# Altium schematic symbol library Connectors.SchLib: 63 symbols
Pins are listed as number, name and electrical type; pins without a type are passive.

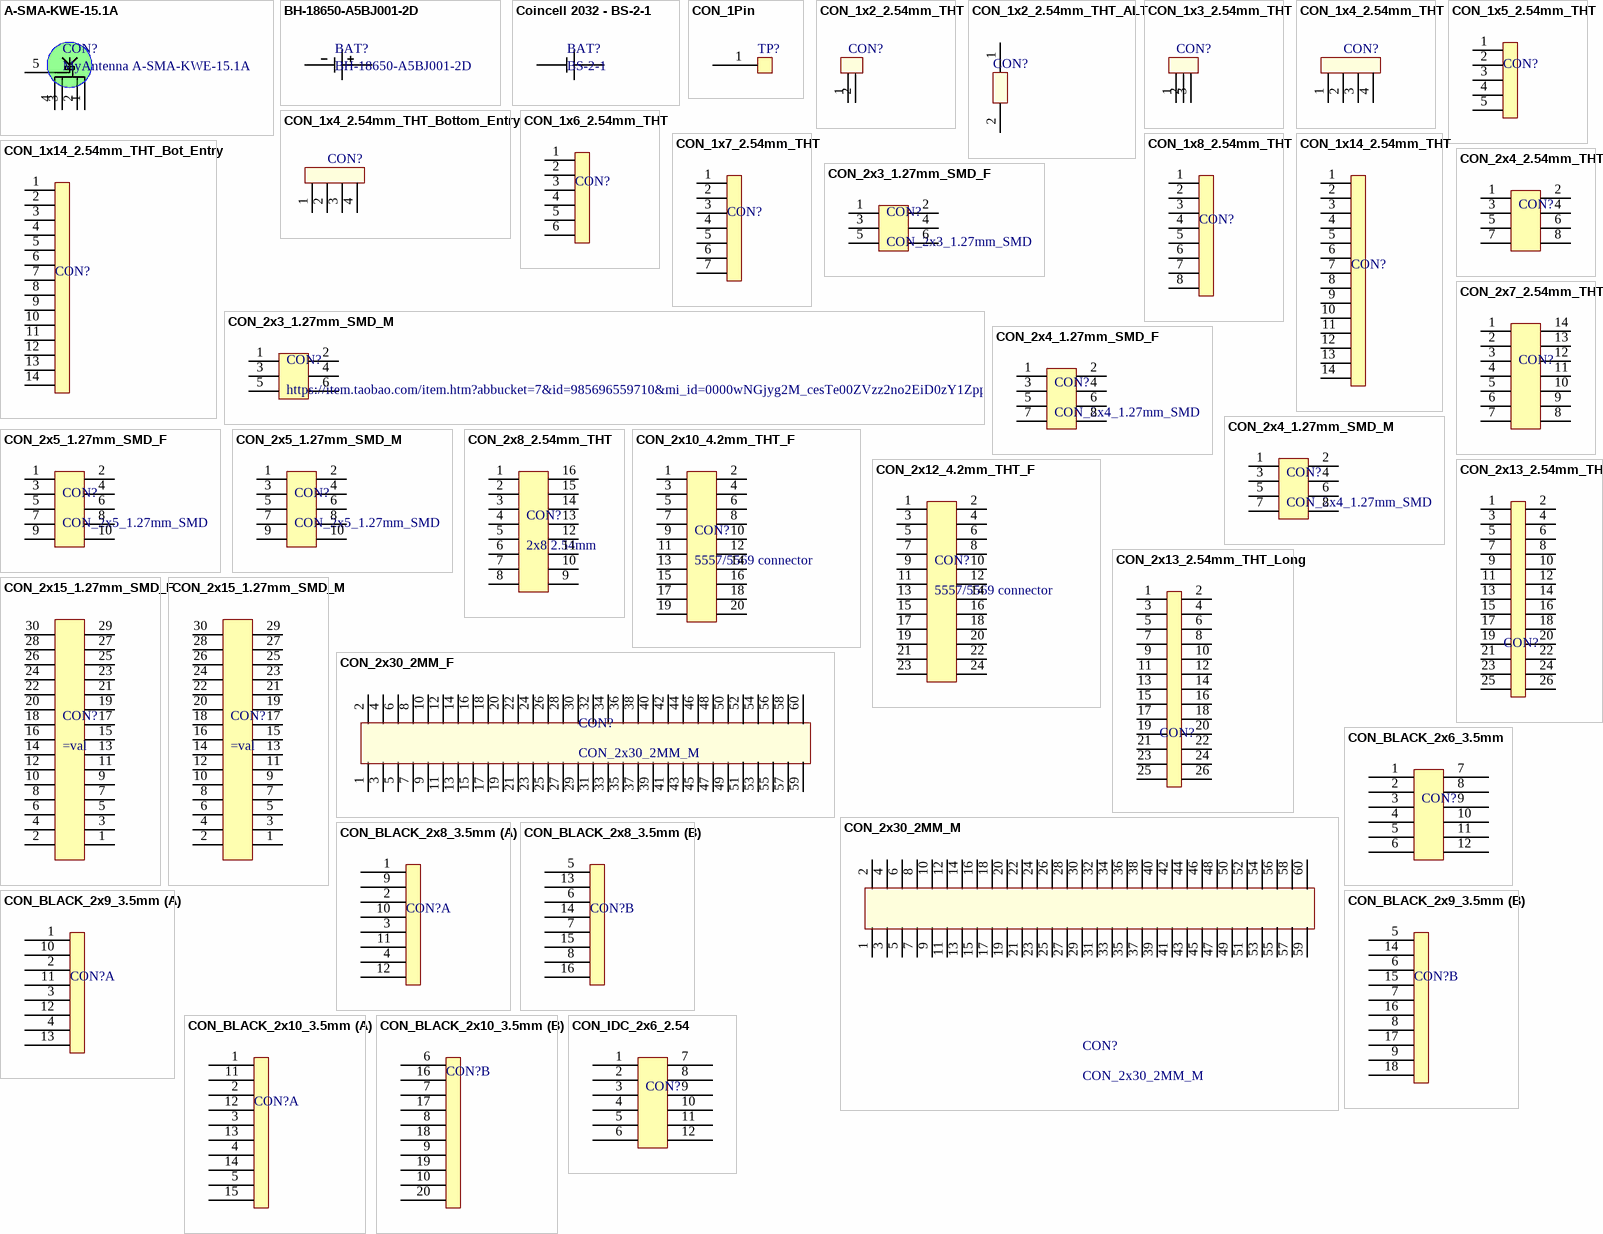
[diagram p0: symbols A-SMA-KWE-15.1A to CON_IDC_2x6_2.54]

## A-SMA-KWE-15.1A
designator CON?, comment MyAntenna A-SMA-KWE-15.1A
SMA Connector - 1 Inner Bore SMA Board Side Elbow 6GHz 50Ω 5.35mm Through Hole Coaxial Connector (RF) Adapters RoHS; val: MyAntenna A-SMA-KWE-15.1A; sample link: https://www.lcsc.com/product-detail/C49253491.html?s_z=n_SMA; unit price: $ 0.9375
footprint A-SMA-KWE-15.1A (1 Inner Bore SMA Board Side Elbow 6GHz 50Ω 5.35mm Through Hole Coaxial Connector (RF) Adapters RoHS)
pins: 1, 2, 3, 4, 5

## BH-18650-A5BJ001-2D
designator BAT?
BATTERY HOLDER CYLINDRICAL TH; val: BH-18650-A5BJ001-2D; sample link: https://www.lcsc.com/product-detail/C19184083.html?s_z=n_q_t_18650&spm=wm.fly.bg.2.xh___wm.ssy.tc.0.tz&lcsc_vid=RVhdAVNUQwAIV1dSEwBWUF1URFhWXgYERVENVQEAQVExVlNRT1dZXlNeRFZcVzsOAxUeFF5JWBYZEEoKFBINSQcJGk4NBhADEA4cHktXQ1FaSQwSGg0%3D; price: $ 0.7; note: *
footprint BH-18650-THR
pins: 1, 2

## Coincell 2032 - BS-2-1
designator BAT?, comment BS-2-1
Coincell 2032 - BS-2-1; note: any manufacturer; val: BS-2-1; sample link: https://item.taobao.com/item.htm?abbucket=2&id=38536074730&ns=1&spm=a230r.1.14.36.6b9547cfXdt8x6; unit price: $ 0.013
footprint Coincell_2032
pins: 1, 2

## CON_1Pin
designator TP?  (value not drawn)
Single THT Pad; note: NC; val: *
footprint CON_1Pin
pins: 1

## CON_1x2_2.54mm_THT
designator CON?, comment 1x2 2.54mm THT  (value not drawn)
CON_1x2_2.54mm_THT; note: any manufacturer; val: 1x2 2.54mm THT
footprint CON_1x2_2.54MM_THT_M (Chip Resistor, 2-Leads, Body 5,20x3,30mm, IPC Medium Density)
footprint CON_1x2_2.54MM_THT_F
pins: 1 "PWR", 2 "I"

## CON_1x2_2.54mm_THT_ALT
designator CON?, comment 1x2 2.54mm THT  (value not drawn)
CON_1x2_2.54mm_THT; note: any manufacturer; val: 1x2 2.54mm THT
footprint CON_1x2_2.54MM_THT_M (Chip Resistor, 2-Leads, Body 5,20x3,30mm, IPC Medium Density)
footprint CON_1x2_2.54MM_THT_F
pins: 1 "PWR", 2 "I"

## CON_1x3_2.54mm_THT
designator CON?, comment 1x3 2.54mm THT  (value not drawn)
CON_1x3_2.54mm_THT; note: any manufacturer; val: 1x3 2.54mm THT
footprint CON_1x3_2.54MM_THT_M (Chip Resistor, 2-Leads, Body 5,20x3,30mm, IPC Medium Density)
footprint CON_1x3_2.54MM_THT_F
pins: 1 "PWR", 2 "I", 3 "I"

## CON_1x4_2.54mm_THT
designator CON?, comment 1x4 2.54mm THT  (value not drawn)
CON_1x4_2.54mm_THT; note: any manufacturer; val: 1x4 2.54mm THT
footprint CON_1x4_2.54MM_THT_M (Chip Resistor, 2-Leads, Body 5,20x3,30mm, IPC Medium Density)
footprint CON_1x4_2.54MM_THT_F
pins: 1 "PWR", 2 "I", 3 "I", 4 "I"

## CON_1x4_2.54mm_THT_Bottom_Entry
designator CON?, comment 1x4 2.54mm THT  (value not drawn)
CON_1x4_2.54mm_THT; note: any manufacturer; val: 1x4 2.54mm THT; sample link: https://detail.tmall.com/item.htm?abbucket=19&id=797183413434&mi_id=0000LhedSY5ZP2KRv-54Ayo_jJ_iVmhxSMyUdi7-I17H6rU&ns=1&priceTId=2100c91517739147599908679e0d32&skuId=5954899691431&spm=a21n57.imgsearch.item.3&utparam=%7B%22aplus_abtest%22%3A%22941633843d8de7444afe6b23dca378c5%22%7D&xxc=taobaoSearch
footprint CON_1x4_2.54MM_THT_F_Bot_Entry
pins: 1 "PWR", 2 "I", 3 "I", 4 "I"

## CON_1x5_2.54mm_THT
designator CON?, comment 1x5 2.54mm  (value not drawn)
CON_1x5_2.54mm_THT; note: any manufacturer; val: 1x5 2.54mm
footprint CON_1x5_2.54MM_THT_M
footprint CON_1x5_2.54MM_THT_F
pins: 1, 2, 3, 4, 5

## CON_1x6_2.54mm_THT
designator CON?, comment 1x6 2.54mm  (value not drawn)
CON_1x6_2.54mm_THT; note: any manufacturer; val: 1x6 2.54mm
footprint CON_1x6_2.54MM_THT_M
footprint CON_1x6_2.54MM_THT_F
pins: 1, 2, 3, 4, 5, 6

## CON_1x7_2.54mm_THT
designator CON?, comment 1x7 2.54mm  (value not drawn)
CON_1x7_2.54mm_THT; note: any manufacturer; val: 1x7 2.54mm
footprint CON_1x7_2.54MM_THT_M
footprint CON_1x7_2.54MM_THT_F
pins: 1, 2, 3, 4, 5, 6, 7

## CON_1x8_2.54mm_THT
designator CON?, comment 1x8 2.54mm  (value not drawn)
CON_1x8_2.54mm_THT; note: any manufacturer; val: 1x8 2.54mm
footprint CON_1x8_2.54MM_THT_M (Chip Resistor, 2-Leads, Body 5,20x3,30mm, IPC Medium Density)
footprint CON_1x8_2.54MM_THT_F
pins: 1, 2, 3, 4, 5, 6, 7, 8

## CON_1x14_2.54mm_THT
designator CON?, comment 1x14 2.54mm  (value not drawn)
CON_1x14_2.54mm_THT; note: any manufacturer; val: 1x14 2.54mm
footprint CON_1X14_2.54MM_THT_M
footprint CON_1X14_2.54MM_THT_F
pins: 1, 2, 3, 4, 5, 6, 7, 8, 9, 10, 11, 12, 13, 14

## CON_1x14_2.54mm_THT_Bot_Entry
designator CON?, comment 1x14 2.54mm  (value not drawn)
CON_1x14_2.54mm_THT Bottom Entry F; note: 14 პინიანი არ იყიდება და 20იანის ყიდვა და გადაჭრა მოგვიწევს; val: 1x14 2.54mm; sample link: https://detail.tmall.com/item.htm?abbucket=19&id=797183413434&mi_id=0000LhedSY5ZP2KRv-54Ayo_jJ_iVmhxSMyUdi7-I17H6rU&ns=1&priceTId=2100c91517739147599908679e0d32&skuId=5604626247720&spm=a21n57.imgsearch.item.3&utparam=%7B%22aplus_abtest%22%3A%22941633843d8de7444afe6b23dca378c5%22%7D&xxc=taobaoSearch; unit price: $ 1.48
footprint CON_1X14_2.54MM_THT_F_Bot_Entry
pins: 1, 2, 3, 4, 5, 6, 7, 8, 9, 10, 11, 12, 13, 14

## CON_2x3_1.27mm_SMD_F
designator CON?, comment CON_2x3_1.27mm_SMD
CON_2x4_1.27mm SMD; sample link: https://detail.tmall.com/item.htm?abbucket=7&id=542887739976&mi_id=00001byeTU42Nw8JpqvEEJw3_ofET_pYYvzusNPfAkYixoU&ns=1&skuId=3428605315590&spm=a21n57.1.hoverItem.7&utparam=%7B%22aplus_abtest%22%3A%22c8a12318f0deb53d81deeb3f6362248f%22%7D&xxc=taobaoSearch; val: CON_2x3_1.27mm_SMD
footprint CON_2x3_1.27mm_SMD_F
pins: 1, 2, 3, 4, 5, 6

## CON_2x3_1.27mm_SMD_M
designator CON?, comment https://item.taobao.com/item.htm?abbucket=7&id=985696559710&mi_id=0000wNGjyg2M_cesTe00ZVzz2no2EiD0zY1ZppcTPX7ewdU&ns=1&priceTId=2100c89217750301413374165e0cd5&spm=a21n57.imgsearch.item.2&utparam=%7B%22aplus_abtest%22%3A%221ace5186278ba47c5557f27108cb537b%22%7D&xxc=taobaoSearch&skuId=5949382556207
CON_2x4_1.27mm SMD; sample link: https://item.taobao.com/item.htm?abbucket=7&id=719795507717&mi_id=0000oywhHygkll7DPobYTEFSxA6Vl07qoXtlYOB_DLtdd5s&ns=1&priceTId=2100c89217750301413374165e0cd5&skuId=5189291839743&spm=a21n57.imgsearch.item.6&utparam=%7B%22aplus_abtest%22%3A%22805ff6bc82cdd4cb5da3d39334db42e2%22%7D&xxc=taobaoSearch; val: https://item.taobao.com/item.htm?abbucket=7&id=985696559710&mi_id=0000wNGjyg2M_cesTe00ZVzz2no2EiD0zY1ZppcTPX7ewdU&ns=1&priceTId=2100c89217750301413374165e0cd5&spm=a21n57.imgsearch.item.2&utparam=%7B%22aplus_abtest%22%3A%221ace5186278ba47c5557f27108cb537b%22%7D&xxc=taobaoSearch&skuId=5949382556207
footprint CON_2x3_1.27mm_SMD_M
pins: 1, 2, 3, 4, 5, 6

## CON_2x4_1.27mm_SMD_F
designator CON?, comment CON_2x4_1.27mm_SMD
CON_2x4_1.27mm SMD with positioning pegs; val: CON_2x4_1.27mm_SMD; sample link: https://item.taobao.com/item.htm?abbucket=7&id=990364773282&mi_id=0000PUgFQrwyk5zXe0LhPjupg4-RZI5iYj2pUu42m8jPTP4&ns=1&priceTId=2100c91e17720165420351112e0d0f&skuId=6122925414288&spm=a21n57.1.hoverItem.9&utparam=%7B%22aplus_abtest%22%3A%22e514192708b4c6914c5abc03ef6ba092%22%7D&xxc=taobaoSearch
footprint CON_2x4_1.27mm_SMD_F
pins: 1, 2, 3, 4, 5, 6, 7, 8

## CON_2x4_1.27mm_SMD_M
designator CON?, comment CON_2x4_1.27mm_SMD
CON_2x4_1.27mm SMD with positioning pegs; val: CON_2x4_1.27mm_SMD; sample link: https://item.taobao.com/item.htm?abbucket=7&id=985696559710&mi_id=0000wNGjyg2M_cesTe00ZVzz2no2EiD0zY1ZppcTPX7ewdU&ns=1&priceTId=2100c89217750301413374165e0cd5&spm=a21n57.imgsearch.item.2&utparam=%7B%22aplus_abtest%22%3A%221ace5186278ba47c5557f27108cb537b%22%7D&xxc=taobaoSearch&skuId=5949382556207
footprint CON_2x4_1.27mm_SMD_M
pins: 1, 2, 3, 4, 5, 6, 7, 8

## CON_2x4_2.54mm_THT
designator CON?, comment 2x4 2.54mm THT  (value not drawn)
CON_2x4_2.54mm_THT; note: any manufacturer; val: 2x4 2.54mm THT
footprint CON_2x4_2.54MM_THT_M
footprint CON_2x4_2.54MM_THT_F
pins: 1, 2, 3, 4, 5, 6, 7, 8

## CON_2x5_1.27mm_SMD_F
designator CON?, comment CON_2x5_1.27mm_SMD
CON_2x5_1.27mm SMD with positioning pegs; sample link: https://item.taobao.com/item.htm?abbucket=7&id=990364773282&mi_id=0000PUgFQrwyk5zXe0LhPjupg4-RZI5iYj2pUu42m8jPTP4&ns=1&priceTId=2100c91e17720165420351112e0d0f&skuId=6122925414289&spm=a21n57.1.hoverItem.9&utparam=%7B%22aplus_abtest%22%3A%22e514192708b4c6914c5abc03ef6ba092%22%7D&xxc=taobaoSearch; val: CON_2x5_1.27mm_SMD
footprint CON_2x5_1.27mm_SMD_F
pins: 1, 2, 3, 4, 5, 6, 7, 8, 9, 10

## CON_2x5_1.27mm_SMD_M
designator CON?, comment CON_2x5_1.27mm_SMD
CON_2x5_1.27mm SMD with positioning pegs; sample link: https://item.taobao.com/item.htm?abbucket=7&id=985696559710&mi_id=0000wNGjyg2M_cesTe00ZVzz2no2EiD0zY1ZppcTPX7ewdU&ns=1&priceTId=2100c89217750301413374165e0cd5&skuId=5949382556198&spm=a21n57.imgsearch.item.2&utparam=%7B%22aplus_abtest%22%3A%221ace5186278ba47c5557f27108cb537b%22%7D&xxc=taobaoSearch; val: CON_2x5_1.27mm_SMD
footprint CON_2x5_1.27mm_SMD_M
pins: 1, 2, 3, 4, 5, 6, 7, 8, 9, 10

## CON_2x7_2.54mm_THT
designator CON?, comment 2x7 2.54mm  (value not drawn)
CON_2x7_2.54mm_THT; note: any manufacturer; val: 2x7 2.54mm
footprint CON_2x7_2.54MM_THT_M
footprint CON_2x7_2.54MM_THT_F
pins: 1, 2, 3, 4, 5, 6, 7, 8, 9, 10, 11, 12, 13 "PWR", 14 "PWR"

## CON_2x8_2.54mm_THT
designator CON?, comment 2x8 2.54mm
CON_2x8_2.54mm_THT; note: any manufacturer; val: 2x8 2.54mm
footprint CON_2x8_2.54MM_THT_M
pins: 1, 2, 3, 4, 5, 6, 7, 8, 9, 10, 11, 12, 13 "PWR", 14 "PWR", 15 "PWR", 16 "PWR"

## CON_2x10_4.2mm_THT_F
designator CON?, comment 5557/5569 connector
CON_2x10_4.2mm_THT Straight Pin; sample link: https://item.taobao.com/item.htm?abbucket=17&id=557446625982&ns=1&spm=a230r.1.14.26.4ae16218Zr5FXY&skuId=3456302328403; val: 5557/5569 connector
footprint CON_2x10_4.2mm_THT_F
pins: 1, 2, 3, 4, 5, 6, 7, 8, 9, 10, 11, 12, 13, 14, 15, 16, 17, 18, 19, 20

## CON_2x12_4.2mm_THT_F
designator CON?, comment 5557/5569 connector
CON_2x12_4.2mm_THT Straight Pin; sample link: https://item.taobao.com/item.htm?abbucket=17&id=557446625982&ns=1&skuId=3642191258094&spm=a230r.1.14.26.4ae16218Zr5FXY; val: 5557/5569 connector
footprint CON_2x12_4.2mm_THT_F
pins: 1, 2, 3, 4, 5, 6, 7, 8, 9, 10, 11, 12, 13, 14, 15, 16, 17, 18, 19, 20, 21, 22, 23, 24

## CON_2x13_2.54mm_THT
designator CON?, comment CON_2x13_2mm_THT  (value not drawn)
CON_2x13_2.54mm_THT; val: CON_2x13_2mm_THT; sample link: https://item.taobao.com/item.htm?id=534188799238&spm=a1z10.5-c.w4002-17382155375.12.655756c29WaZFO&sku_properties=1627207%3A2525007167
footprint CON_2x13_2.54MM_THT_M
footprint CON_2x13_2.54MM_THT_F
pins: 1, 2, 3, 4, 5, 6, 7, 8, 9, 10, 11, 12, 13, 14, 15, 16, 17, 18, 19, 20, 21 "I", 22 "I", 23 "I", 24 "I", 25 "I", 26 "I"

## CON_2x13_2.54mm_THT_Long
designator CON?, comment CON_2x13_2mm_THT  (value not drawn)
CON_2x13_2.54mm_THT / 2cm Pins; val: CON_2x13_2mm_THT; sample link: https://item.taobao.com/item.htm?abbucket=7&id=733740487589&mi_id=0000Hg0Q1O6FFgDh7fKpRoC1w_PtEjmXGdB206RTIYGQlIM&ns=1&priceTId=2100c80517750255167513790e0cce&skuId=5077206449686&spm=a21n57.1.hoverItem.8&utparam=%7B%22aplus_abtest%22%3A%22201c268619616e18fb90ef143cfc7206%22%7D&xxc=taobaoSearch
footprint CON_2x13_2.54MM_THT_M_LONG
pins: 1, 2, 3, 4, 5, 6, 7, 8, 9, 10, 11, 12, 13, 14, 15, 16, 17, 18, 19, 20, 21 "I", 22 "I", 23 "I", 24 "I", 25 "I", 26 "I"

## CON_2x15_1.27mm_SMD_F
designator CON?
CON_2x15_1.27mm SMD with positioning pegs; sample link: https://item.taobao.com/item.htm?abbucket=7&id=990364773282&mi_id=0000PUgFQrwyk5zXe0LhPjupg4-RZI5iYj2pUu42m8jPTP4&ns=1&priceTId=2100c91e17720165420351112e0d0f&skuId=6122925414294&spm=a21n57.1.hoverItem.9&utparam=%7B%22aplus_abtest%22%3A%22e514192708b4c6914c5abc03ef6ba092%22%7D&xxc=taobaoSearch
footprint CON_2x15_1.27mm_SMD_F
pins: 1, 2, 3, 4, 5, 6, 7, 8, 9, 10, 11, 12, 13, 14, 15, 16, 17, 18, 19, 20, 21, 22, 23, 24, 25, 26, 27, 28, 29, 30

## CON_2x15_1.27mm_SMD_M
designator CON?
CON_2x15_1.27mm SMD with positioning pegs; sample link: https://item.taobao.com/item.htm?abbucket=7&id=985696559710&mi_id=0000wNGjyg2M_cesTe00ZVzz2no2EiD0zY1ZppcTPX7ewdU&ns=1&priceTId=2100c89217750301413374165e0cd5&spm=a21n57.imgsearch.item.2&utparam=%7B%22aplus_abtest%22%3A%221ace5186278ba47c5557f27108cb537b%22%7D&xxc=taobaoSearch&skuId=5949382556207
footprint CON_2x15_1.27mm_SMD_M
pins: 1, 2, 3, 4, 5, 6, 7, 8, 9, 10, 11, 12, 13, 14, 15, 16, 17, 18, 19, 20, 21, 22, 23, 24, 25, 26, 27, 28, 29, 30

## CON_2x30_2MM_F
designator CON?, comment CON_2x30_2MM_M
CON_2x30_2MM_F; val: CON_2x30_2MM_M; note: *; sample link: https://www.lcsc.com/product-detail/C65178.html?s_z=n_2.0-2%2a30P
footprint CON_2x30_2MM_F
pins: 1, 2, 3, 4, 5, 6, 7, 8, 9, 10, 11, 12, 13, 14, 15, 16, 17, 18, 19, 20, 21, 22, 23, 24, 25, 26, 27, 28, 29, 30, 31, 32, 33, 34, 35, 36, 37, 38, 39, 40, 41, 42, 43, 44, 45, 46, 47, 48, 49, 50, 51, 52, 53, 54, 55, 56, 57, 58, 59, 60

## CON_2x30_2MM_M
designator CON?
val: CON_2x30_2MM_M; note: *; sample link: https://www.lcsc.com/product-detail/C42717.html?spm=wm.fly.bg.0.xh___wm.fly.tp.4.ml&lcsc_vid=FVFdBVUFR1ULBQFWR1cKXlxXQwQPVFVUQFJaUFIARFkxVlNRQVhaUVNWQFdaUTsOAxUeFF5JWBYZEEoKFBINSQcJGk4NBhADEA4cHktRTlJADxALGw%3D%3D
footprint CON_2x30_2MM_M
pins: 1, 2, 3, 4, 5, 6, 7, 8, 9, 10, 11, 12, 13, 14, 15, 16, 17, 18, 19, 20, 21, 22, 23, 24, 25, 26, 27, 28, 29, 30, 31, 32, 33, 34, 35, 36, 37, 38, 39, 40, 41, 42, 43, 44, 45, 46, 47, 48, 49, 50, 51, 52, 53, 54, 55, 56, 57, 58, 59, 60

## CON_BLACK_2x6_3.5mm
designator CON?, comment KF2EDGSV-3.5-2*8P  (value not drawn)
300V -40℃~+105℃ 8 10A Black 3.5mm Board Side/Socket - Closed 2 2x8P Straight Pin Through Hole,P=3.5mm Headers, Plugs and Sockets RoHS; note: any manufacturer; val: KF2EDGSV-3.5-2*8P; sample link: https://item.taobao.com/item.htm?id=654108697549&last_time=1765862189&mi_id=00003wfGBEcvtUKEhEmhOd_nwq-6bMiOgI4-hHG0audKinI&scm=1007.13982.82927.0&skuId=4896664375707&spm=tbpc.mytb_footmark.item.goods&upStreamPrice=80; unit price: $ 1.42
footprint CON_BLACK_2X6_3.5MM
pins: 1, 2, 3, 4, 5, 6, 7, 8, 9, 10, 11, 12

## CON_BLACK_2x8_3.5mm
designator CON?, comment KF2EDGSV-3.5-2*8P  (value not drawn)
300V -40℃~+105℃ 8 10A Black 3.5mm Board Side/Socket - Closed 2 2x8P Straight Pin Through Hole,P=3.5mm Headers, Plugs and Sockets RoHS; note: any manufacturer; val: KF2EDGSV-3.5-2*8P; sample link: https://item.taobao.com/item.htm?id=654108697549&last_time=1765862189&mi_id=00003wfGBEcvtUKEhEmhOd_nwq-6bMiOgI4-hHG0audKinI&scm=1007.13982.82927.0&spm=tbpc.mytb_footmark.item.goods&upStreamPrice=80&skuId=4896664375717; unit price: $ 1.42
footprint CON_BLACK_2x8_3.5mm (15EDGKNH KF2EDGKS 3.5 Double-layer spring-loaded PCB terminal block 2EDGSR black terminal)
part A pins: 1, 2, 3, 4, 9, 10, 11, 12
part B pins: 5 15, 6, 7, 8, 13, 14, 15, 16

## CON_BLACK_2x9_3.5mm
designator CON?, comment KF2EDGSV-3.5-2*8P  (value not drawn)
300V -40℃~+105℃ 8 10A Black 3.5mm Board Side/Socket - Closed 2 2x8P Straight Pin Through Hole,P=3.5mm Headers, Plugs and Sockets RoHS; note: any manufacturer; val: KF2EDGSV-3.5-2*8P; sample link: https://item.taobao.com/item.htm?id=654108697549&last_time=1765862189&mi_id=00003wfGBEcvtUKEhEmhOd_nwq-6bMiOgI4-hHG0audKinI&scm=1007.13982.82927.0&sku_properties=1627207%3A387614636&spm=tbpc.mytb_footmark.item.goods&upStreamPrice=80; unit price: $ 1.5
footprint CON_BLACK_2x9_3.5mm (15EDGKNH KF2EDGKS 3.5 Double-layer spring-loaded PCB terminal block 2EDGSR black terminal)
part A pins: 1, 2, 3, 4, 10, 11, 12, 13
part B pins: 5 15, 6, 7, 8, 9, 14, 15, 16, 17, 18

## CON_BLACK_2x10_3.5mm
designator CON?, comment KF2EDGSV-3.5-2*8P  (value not drawn)
300V -40℃~+105℃ 8 10A Black 3.5mm Board Side/Socket - Closed 2 2x8P Straight Pin Through Hole,P=3.5mm Headers, Plugs and Sockets RoHS; note: any manufacturer; val: KF2EDGSV-3.5-2*8P; sample link: https://item.taobao.com/item.htm?id=654108697549&last_time=1765862189&mi_id=00003wfGBEcvtUKEhEmhOd_nwq-6bMiOgI4-hHG0audKinI&scm=1007.13982.82927.0&sku_properties=1627207%3A402630518&spm=tbpc.mytb_footmark.item.goods&upStreamPrice=80; unit price: $ 1.5
footprint CON_BLACK_2x10_3.5mm (15EDGKNH KF2EDGKS 3.5 Double-layer spring-loaded PCB terminal block 2EDGSR black terminal)
part A pins: 1, 2, 3, 4, 5, 11, 12, 13, 14, 15
part B pins: 6, 7, 8, 9, 10, 16, 17, 18, 19, 20

## CON_IDC_2x6_2.54
designator CON?, comment BOOMELE(Boom Precision Elec) 2.54-2*6P  (value not drawn)
IDC Connector 2x6 2.54mm pitch; note: any manufacturer; sample link: https://www.lcsc.com/product-detail/C9136.html; val: BOOMELE(Boom Precision Elec) 2.54-2*6P; unit price: $ 0.1136
footprint CON_IDC_2x6_2.54
pins: 1, 2, 3, 4, 5, 6, 7, 8, 9, 10, 11, 12

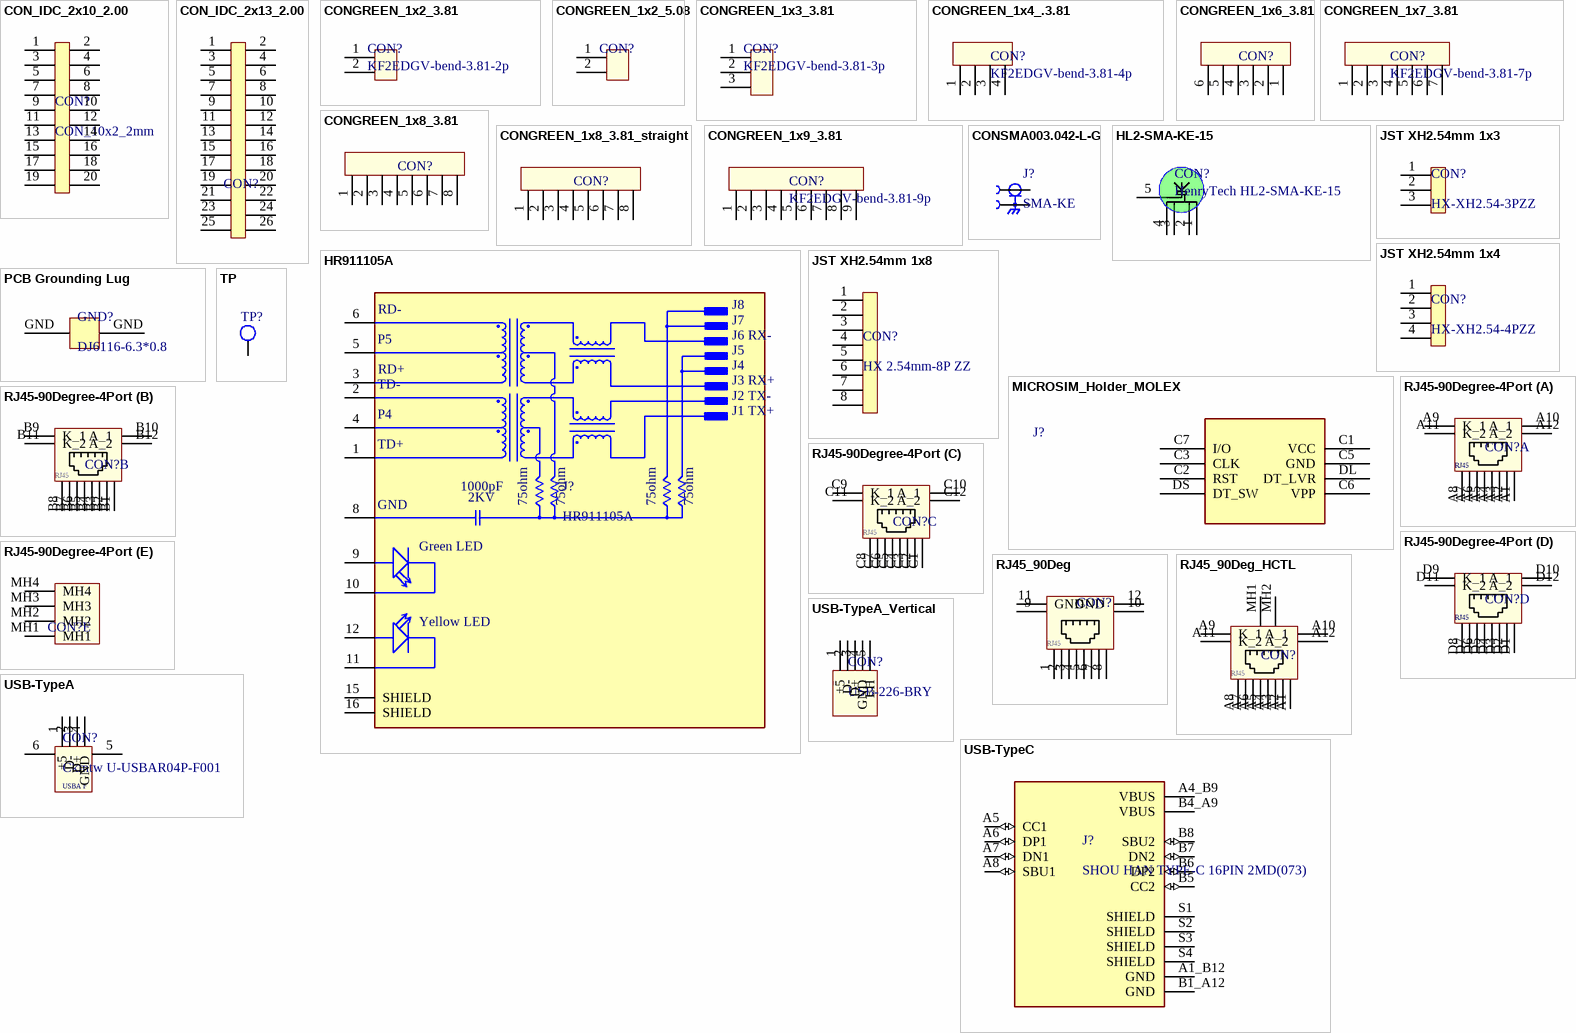
[diagram p1: symbols CON_IDC_2x10_2.00 to USB-TypeC]

## CON_IDC_2x10_2.00
designator CON?, comment CON_10x2_2mm
IDC Connector 2x10 2.00mm; sample link: https://item.taobao.com/item.htm?id=534188799238&spm=a1z10.5-c.w4002-17382155375.12.655756c29WaZFO&sku_properties=1627207%3A2525007165; val: CON_10x2_2mm; unit price: $ 0.03
footprint CON_IDC_2x10_2.00
pins: 1, 2, 3, 4, 5, 6, 7, 8, 9, 10, 11, 12, 13, 14, 15, 16, 17, 18, 19, 20

## CON_IDC_2x13_2.00
designator CON?, comment CON_2x13_2mm_THT  (value not drawn)
IDC Connector 2x13 2.00mm; val: CON_2x13_2mm_THT; sample link: https://item.taobao.com/item.htm?id=534188799238&spm=a1z10.5-c.w4002-17382155375.12.655756c29WaZFO&sku_properties=1627207%3A2525007167; unit price: $ 0.03
footprint CON_IDC_2x13_2.00
pins: 1, 2, 3, 4, 5, 6, 7, 8, 9, 10, 11, 12, 13, 14, 15, 16, 17, 18, 19, 20, 21 "I", 22 "I", 23 "I", 24 "I", 25 "I", 26 "I"

## CONGREEN_1x2_3.81
designator CON?, comment KF2EDGV-bend-3.81-2p
Green Connector; / KF2EDGV-bend-3.81-2p; val: KF2EDGV-bend-3.81-2p; sample link: https://item.taobao.com/item.htm?abbucket=9&id=576170361051&ns=1&skuId=3789887120326&spm=a230r.1.14.16.7b7d1f20ZfqEbK
footprint CONGREEN_1x2_3.81
pins: 1, 2

## CONGREEN_1x2_5.08
designator CON?, comment KF2EDGV-bend-5.08-2p  (value not drawn)
Green Connector; / 90 Deg; / Standard Power CON;; note: any manufacturer; val: KF2EDGV-bend-5.08-2p; sample link: https://item.taobao.com/item.htm?id=627937673630&ali_refid=a3_430620_1006:1357150152:N:qcFFAXKWVXPiAomGkMlNEA%3D%3D:4aff8ccc3e7e8f00aa33368873902164&ali_trackid=230_4aff8ccc3e7e8f00aa33368873902164&spm=a230r.1.14.8#detail
footprint CONGREEN_1x2_5.08
pins: 1, 2

## CONGREEN_1x3_3.81
designator CON?, comment KF2EDGV-bend-3.81-3p
Green Connector; / KF2EDGV-bend-3.81-3p; val: KF2EDGV-bend-3.81-3p; sample link: https://item.taobao.com/item.htm?abbucket=9&id=576170361051&ns=1&spm=a230r.1.14.16.7b7d1f20ZfqEbK&skuId=3789887120336
footprint CONGREEN_1x3_3.81 (SOIC, 100-Leads, Body 64,17x3,05mm, Pitch 1,27mm, IPC Medium Density)
pins: 1, 2, 3

## CONGREEN_1x4_.3.81
designator CON?, comment KF2EDGV-bend-3.81-4p
Green Connector; / KF2EDGV-bend-3.81-4p; val: KF2EDGV-bend-3.81-4p; sample link: https://item.taobao.com/item.htm?abbucket=9&id=576170361051&ns=1&spm=a230r.1.14.16.7b7d1f20ZfqEbK&skuId=3789887120346
footprint CONGREEN_1x4_3.81 (SOIC, 100-Leads, Body 64,17x3,05mm, Pitch 1,27mm, IPC Medium Density)
pins: 1, 2, 3, 4

## CONGREEN_1x6_3.81
designator CON?, comment KF2EDGV-bend-3.81-6p  (value not drawn)
Green Connector; / KF2EDGV-bend-3.81-6p; note: any manufacturer; val: KF2EDGV-bend-3.81-6p; sample link: https://item.taobao.com/item.htm?abbucket=9&id=576170361051&ns=1&skuId=3789887120366&spm=a230r.1.14.16.7b7d1f20ZfqEbK
footprint CONGREEN_1x6_3.81 (SOIC, 100-Leads, Body 64,17x3,05mm, Pitch 1,27mm, IPC Medium Density)
pins: 1, 2, 3, 4, 5, 6

## CONGREEN_1x7_3.81
designator CON?, comment KF2EDGV-bend-3.81-7p
Green Connector; / KF2EDGV-bend-3.81-7p; val: KF2EDGV-bend-3.81-7p; sample link: https://item.taobao.com/item.htm?abbucket=9&id=576170361051&ns=1&skuId=3789887120375&spm=a230r.1.14.16.7b7d1f20ZfqEbK
footprint CONGREEN_1x7_3.81
pins: 1, 2, 3, 4, 5, 6, 7

## CONGREEN_1x8_3.81
designator CON?, comment KF2EDGV-bend-3.81-8p  (value not drawn)
Green Connector; / KF2EDGV-bend-3.81-8p; note: any manufacturer; val: KF2EDGV-bend-3.81-8p; sample link: https://item.taobao.com/item.htm?abbucket=9&id=576170361051&ns=1&skuId=3789887120385&spm=a230r.1.14.16.7b7d1f20ZfqEbK
footprint CONGREEN_1X8_3.81 (SOIC, 100-Leads, Body 64,17x3,05mm, Pitch 1,27mm, IPC Medium Density)
pins: 1, 2, 3, 4, 5, 6, 7, 8

## CONGREEN_1x8_3.81_straight
designator CON?, comment KF2EDGV-straight-3.81-8p  (value not drawn)
Green Connector; / KF2EDGV-straight-3.81-8p; note: any manufacturer; val: KF2EDGV-straight-3.81-8p; sample link: https://item.taobao.com/item.htm?abbucket=9&id=576170361051&ns=1&skuId=3789887120385&spm=a230r.1.14.16.7b7d1f20ZfqEbK
footprint CONGREEN_1X8_3.81 - Straight (Straight Pin 3.81MM Pitch green connector)
pins: 1, 2, 3, 4, 5, 6, 7, 8

## CONGREEN_1x9_3.81
designator CON?, comment KF2EDGV-bend-3.81-9p
Green Connector; / KF2EDGV-bend-3.81-9p; val: KF2EDGV-bend-3.81-9p; sample link: https://item.taobao.com/item.htm?abbucket=9&id=576170361051&ns=1&skuId=3789887120395&spm=a230r.1.14.16.7b7d1f20ZfqEbK
footprint CONGREEN_1x9_3.81 (SOIC, 100-Leads, Body 64,17x3,05mm, Pitch 1,27mm, IPC Medium Density)
pins: 1, 2, 3, 4, 5, 6, 7, 8, 9

## CONSMA003.042-L-G
designator J?, comment SMA-KE
SMA Connector Both Sides Connection; val: SMA-KE; note: *; sample link: https://item.taobao.com/item.htm?abbucket=19&id=625697500005&mi_id=0000RPKnrCYVV924VSQQ5dxmzhTn4ThI17Jkv_LePbrIjc8&ns=1&priceTId=2100c88c17787385578152926e0cd6&skuId=4653646038743&spm=a21n57.1.hoverItem.1&utparam=%7B%22aplus_abtest%22%3A%22c4c43f5fe413d2f915522e81919b213b%22%7D&xxc=taobaoSearch; unit price: $ 0.11
footprint TE_CONSMA003.042-L-G
pins: 1 SIG, 2 SH (power), 3 SH (power), 4 SH (power), 5 SH (power)

## HL2-SMA-KE-15
designator CON?, comment HenryTech HL2-SMA-KE-15
SMA Connector - Through Hole Coaxial Connector (RF) Adapters RoHS; val: HenryTech HL2-SMA-KE-15; sample link: https://www.lcsc.com/product-detail/C53278699.html; unit price: $ 1.1673
footprint HL2-SMA-KE-15 (Through Hole Coaxial Connector (RF) Adapters RoHS)
pins: 1, 2, 3, 4, 5

## HR911105A
designator J?
CONN MOD JACK RJ45 TH; val: HR911105A; note: *; sample link: https://www.lcsc.com/product-detail/C12074.html; unit price: $ 1.5011
footprint HANRUN_HR911105A
pins: 1 TD+, 2 TD-, 3 RD+, 4 P4, 5 P5, 6 RD-, 8 GND (power), 9 GA, 10 GC, 11 YC, 12 YA, 15 SHIELD, 16 SHIELD
text: J8; J7; J6 RX-; J5; J4; J3 RX+; J2 TX-; J1 TX+; 1000pF; 2KV; 75ohm; Green LED; Yellow LED

## JST XH2.54mm 1x3
designator CON?, comment HX-XH2.54-3PZZ
Connector Header 3 position 2.54mm Pitch 3A Through Hole -25℃~+85℃; note: any manufacturer; sample link: https://www.lcsc.com/product-detail/C42391661.html?spm=wm.fly.bg.3.stp___wm.sxq.ssx.spl&lcsc_vid=FVFdBVUFR1ULBQFWR1cKXlxXQwQPVFVUQFJaUFIARFkxVlNRT1lcU11RQ1ZeUTtW; val: HX-XH2.54-3PZZ; unit price: $ 0.0102
footprint JST XH2.54mm 1x3
pins: 1, 2, 3

## JST XH2.54mm 1x4
designator CON?, comment HX-XH2.54-4PZZ
Connector Header 4 position 2.54mm Pitch 3A Through Hole -25℃~+85℃; note: any manufacturer; sample link: https://www.lcsc.com/product-detail/C42391662.html?spm=wm.fly.bg.6.xh___wm.sxq.ssx.spl&lcsc_vid=FVFdBVUFR1ULBQFWR1cKXlxXQwQPVFVUQFJaUFIARFkxVlNRT1lcU11RQ1ZeUTtW; val: HX-XH2.54-4PZZ; unit price: $ 0.0138
footprint JST XH2.54mm 1x4
pins: 1, 2, 3, 4

## JST XH2.54mm 1x8
designator CON?, comment HX 2.54mm-8P ZZ
Connector Header 8 position 2.5mm Pitch 3A Through Hole -25℃~+85℃; note: any manufacturer; sample link: https://www.lcsc.com/product-detail/C7543437.html?s_z=n_jst%2520hx2.54mm-8p; val: HX 2.54mm-8P ZZ; unit price: $ 0.0308
footprint JST XH2.54mm 1x8
pins: 1, 2, 3, 4, 5, 6, 7, 8

## MICROSIM_Holder_MOLEX
designator J?, comment 5039600696  (value not drawn)
8 (6 + 2) Position Card Connector Micro SIM Surface Mount, Right Angle Gold; note: Original; val: 5039600696; sample link: https://www.lcsc.com/product-detail/C132719.html; unit price: $ 1.3465
footprint MICROSIM_Holder_MOLEX
pins: C1 VCC, C2 RST, C3 CLK, C5 GND, C6 VPP, C7 I/O, DL DT_LVR, DS DT_SW

## PCB Grounding Lug
designator GND?, comment DJ6116-6.3*0.8
6.3 Solderable PCB Circuit Board Double-Legged Terminal Block, All-Copper Tin-Plated Terminal, DJ6111, 100 Pieces Per Pack; val: DJ6116-6.3*0.8; sample link: https://item.taobao.com/item.htm?ali_refid=a3_430582_1006%3A1104149272%3AH%3An9mHnzcxBNp2jFTLfIj5iQYWNE7jUVWm%3A0afdb5663c5e85bf8f396bfa5daf16e9&ali_trackid=282_0afdb5663c5e85bf8f396bfa5daf16e9&id=21594604895&mi_id=00005NZ16CesVimSWTYBppn8jke6a_DMuux62et79OqQCbg&mm_sceneid=1_0_28660915_0&priceTId=2100c87a17788391439115842e0cc8&skuId=5210790142166&spm=a21n57.1.hoverItem.1&utparam=%7B%22aplus_abtest%22%3A%22649906a51ca86400e56d821ce6049f85%22%7D&xxc=ad_ztc; note: *; unit price: $ 1.5
footprint PCB Grounding Lug
pins: GND, GND

## RJ45-90Degree-4Port
designator CON?, comment HCTL HC-RJ45-5JA-4-2  (value not drawn)
Jack Modular Connector RJ45 Through Hole, Right Angle Shielded; val: HCTL HC-RJ45-5JA-4-2; note: *; sample link: https://www.lcsc.com/product-detail/C3000183.html?s_z=n_q_HC-RJ45-5JA-4-2&spm=wm.ssy.bg.0.xh&lcsc_vid=FVFdBVUFR1ULBQFWR1cKXlxXQwQPVFVUQFJaUFIARFkxVlNRQFJYXldTR1hcUTsOAxUeFF5JWBYZEEoKFBINSQcJGk4eFQsCAgIaSgADAwAHC0slQ1NdXlFXTlNADxALGw%3D%3D; unit price: $ 0.9557
footprint RJ45_90Deg_4Port
part A pins: A1, A2, A3, A4, A5, A6, A7, A8, A9 K_1, A10 A_1, A11 K_2, A12 A_2
part B pins: B1, B2, B3, B4, B5, B6, B7, B8, B9 K_1, B10 A_1, B11 K_2, B12 A_2
part C pins: C1, C2, C3, C4, C5, C6, C7, C8, C9 K_1, C10 A_1, C11 K_2, C12 A_2
part D pins: D1, D2, D3, D4, D5, D6, D7, D8, D9 K_1, D10 A_1, D11 K_2, D12 A_2
part E pins: MH1, MH2, MH3, MH4
part A text: RJ45
part B text: RJ45
part C text: RJ45
part D text: RJ45

## RJ45_90Deg
designator CON?, comment Rj45 socket, 8p8c full, horizontal  (value not drawn)
Jack Modular Connector RJ45 Through Hole, Right Angle Shielded; note: Good Quality; val: Rj45 socket, 8p8c full, horizontal; sample link: https://www.lcsc.com/product-detail/Ethernet-Connectors-Modular-Connectors-span-style-background-color-ff0-RJ45-span-RJ11_Ckmtw-Shenzhen-Cankemeng-R-RJ45R10P-B000_C386758.html; unit price: $ 0.3875
footprint RJ45_90Deg
pins: 1 TX+, 2 TX-, 3 RX+, 4 N/A, 5 N/A, 6 RX-, 7 N/A, 8 N/A, 9 GND, 10 GND, 11 GND, 12 GND
text: RJ45

## RJ45_90Deg_HCTL
designator CON?, comment HCTL HC-RJ45-5JA-1-2  (value not drawn)
Jack Modular Connector RJ45 Through Hole, Right Angle Shielded; val: HCTL HC-RJ45-5JA-1-2; sample link: https://www.lcsc.com/product-detail/C3000172.html?s_z=n_HC-RJ45-5JA-1-2; unit price: $ 0.3325
footprint RJ45_90Deg_HCTL
pins: A1, A2, A3, A4, A5, A6, A7, A8, A9 K_1, A10 A_1, A11 K_2, A12 A_2, MH1 GND, MH2 GND
text: RJ45

## TP
designator TP?
footprint TP_D1mm
pins: A1

## USB-TypeA
designator CON?, comment Ckmtw U-USBAR04P-F001
USB-A (USB TYPE-A) Receptacle Connector 4 Position Right Angle; val: Ckmtw U-USBAR04P-F001; note: *; sample link: https://www.lcsc.com/product-detail/C3025487.html?s_z=n_USB%20female; unit price: $ 0.1354
footprint USB_A_FEMALE_THT (Chip Resistor, 2-Leads, Body 5,20x3,30mm, IPC Medium Density)
pins: 1 +5, 2 D-, 3 D+, 4 GND, 5, 6
text: USBA F

## USB-TypeA_Vertical
designator CON?, comment USB-226-BRY
USB-A (USB TYPE-A) Receptacle Connector 4 Position Vertical, Flag; val: USB-226-BRY; note: *; sample link: https://www.lcsc.com/product-detail/C720523.html?s_z=n_q_t_USB%2520TYPE-a&spm=wm.fly.bg.11.stp___wm.ssy.tc.1.tz&lcsc_vid=FVFdBVUFR1ULBQFWR1cKXlxXQwQPVFVUQFJaUFIARFkxVlNRT1lcUFBVQlFYXjsOAxUeFF5JWBYZEEoKFBINSQcJGk4eFQsCAgIaSgADAwAHC0slQFRaVFBVQE8GEwkK; unit price: $ 0.1543
footprint USB_A_FEMALE_THT_Vertical
pins: 1 +5, 2 D-, 3 D+, 4 GND, 5 EH

## USB-TypeC
designator J?, comment SHOU HAN TYPE-C 16PIN 2MD(073)
USB-C (USB TYPE-C) Receptacle Connector 16 Position Surface Mount, Right Angle; val: SHOU HAN TYPE-C 16PIN 2MD(073); note: *; sample link: https://www.lcsc.com/product-detail/C2765186.html?s_z=n_type%2520C; unit price: $ 0.0742
footprint HRO_TYPE-C-31-M-12
pins: A1_B12 GND (power), A4_B9 VBUS (power), A5 CC1 (io), A6 DP1 (io), A7 DN1 (io), A8 SBU1 (io), B1_A12 GND (power), B4_A9 VBUS (power), B5 CC2 (io), B6 DP2 (io), B7 DN2 (io), B8 SBU2 (io), S1 SHIELD, S2 SHIELD, S3 SHIELD, S4 SHIELD